# Altium footprint library DongHo.PcbLib: 2 footprints
Each footprint in its own frame and in the unit in brackets; x right, y up, seen from the top. Pads: shape width x height; smd on the part's side, far side on the other; paste and mask are expansions set on the pad; w line width, h text height; cw(c..) or ccw(c..) is an arc to the next point about the centre after c.
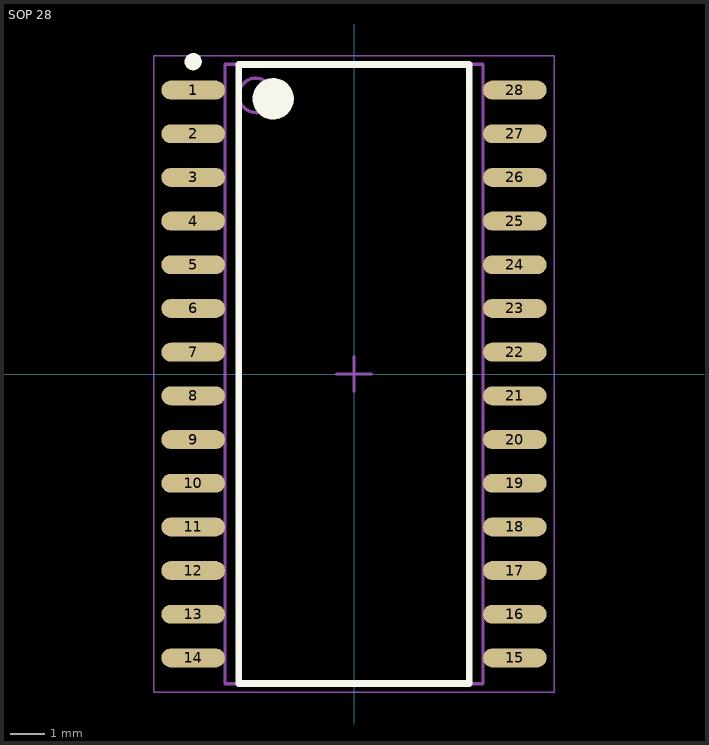
[diagram p0: the footprints below, top view; thin cyan lines are the x and y axes]

## PCBComponent_1 [mm]

## SOP 28 [mm] "SOIC, 28-Leads, Body 18.00x7.50mm, Pitch 1.27mm, IPC Medium Density"
height 2.3
pads (28):
  oval 1.85x0.55 smd: 1(-4.675,8.255) 2(-4.675,6.985) 3(-4.675,5.715) 4(-4.675,4.445) 5(-4.675,3.175) 6(-4.675,1.905) 7(-4.675,0.635) 8(-4.675,-0.635) 9(-4.675,-1.905) 10(-4.675,-3.175) 11(-4.675,-4.445) 12(-4.675,-5.715) 13(-4.675,-6.985) 14(-4.675,-8.255) 15(4.675,-8.255) 16(4.675,-6.985) 17(4.675,-5.715) 18(4.675,-4.445) 19(4.675,-3.175) 20(4.675,-1.905) 21(4.675,-0.635) 22(4.675,0.635) 23(4.675,1.905) 24(4.675,3.175) 25(4.675,4.445) 26(4.675,5.715) 27(4.675,6.985) 28(4.675,8.255)
Top Overlay:
  circle w0.25: c-4.675,9.08 r0.125
  circle w0.6: c-2.35,8 r0.3
  lines w0.2: -3.35,-9 -3.35,9 3.35,9 3.35,-9 -3.35,-9
Mechanical 13:
  circle w0.1: c-2.85,8.1 r0.5
  lines w0.1: -3.75,-9 -3.75,9 3.75,9 3.75,-9 -3.75,-9
Mechanical 15:
  lines w0.05: -5.825,-9.25 -5.825,9.25 5.825,9.25 5.825,-9.25 -5.825,-9.25
  lines w0.1: -0.5,0 0.5,0 ; 0,-0.5 0,0.5
3D body "User Library-28-SOIC.step": height 2.73, standoff -0.03, extent -5.023,-9.01 5.277,8.89